# EAGLE library part ICTT100A (library SOARRSO_CubeSat_OBC_Library)
MAX33054EASA+ CAN-Tranceiver SOIC8 Max 125C
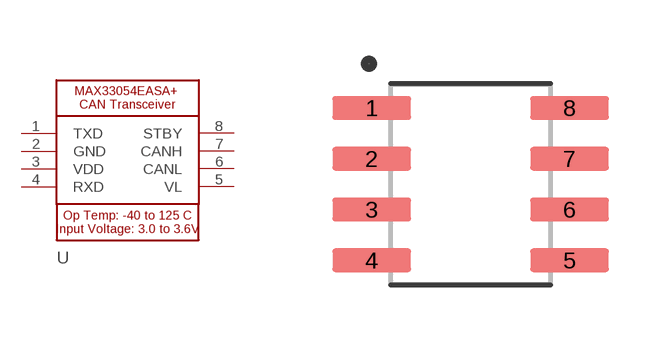
[diagram p5: symbol with the pads of IC_MAX33054EASA+; footprint IC_MAX33054EASA+]

Designator prefix U

## ICTT100A_MAX33054EASA+_CAN-TRANCEIVER (TYPE: MAX33054)  [IC_MAX33054EASA+]
1  TXD  in
2  GND  pwr
3  VDD  pwr
4  RXD  out
5  VL  pwr
6  CANL  in
7  CANH  in
8  STBY  in

## Footprint IC_MAX33054EASA+ (pad centres in mm)
smd 1.97 x 0.59: 1 -2.475,1.905; 2 -2.475,0.635; 3 -2.475,-0.635; 4 -2.475,-1.905; 5 2.475,-1.905; 6 2.475,-0.635; 7 2.475,0.635; 8 2.475,1.905